# Altium footprint library xEV_Flyback20W.PcbLib: 42 footprints (part 1 of 3)
Each footprint in its own frame and in the unit in brackets; x right, y up, seen from the top. Pads: shape width x height; smd on the part's side, far side on the other; paste and mask are expansions set on the pad; w line width, h text height; cw(c..) or ccw(c..) is an arc to the next point about the centre after c.
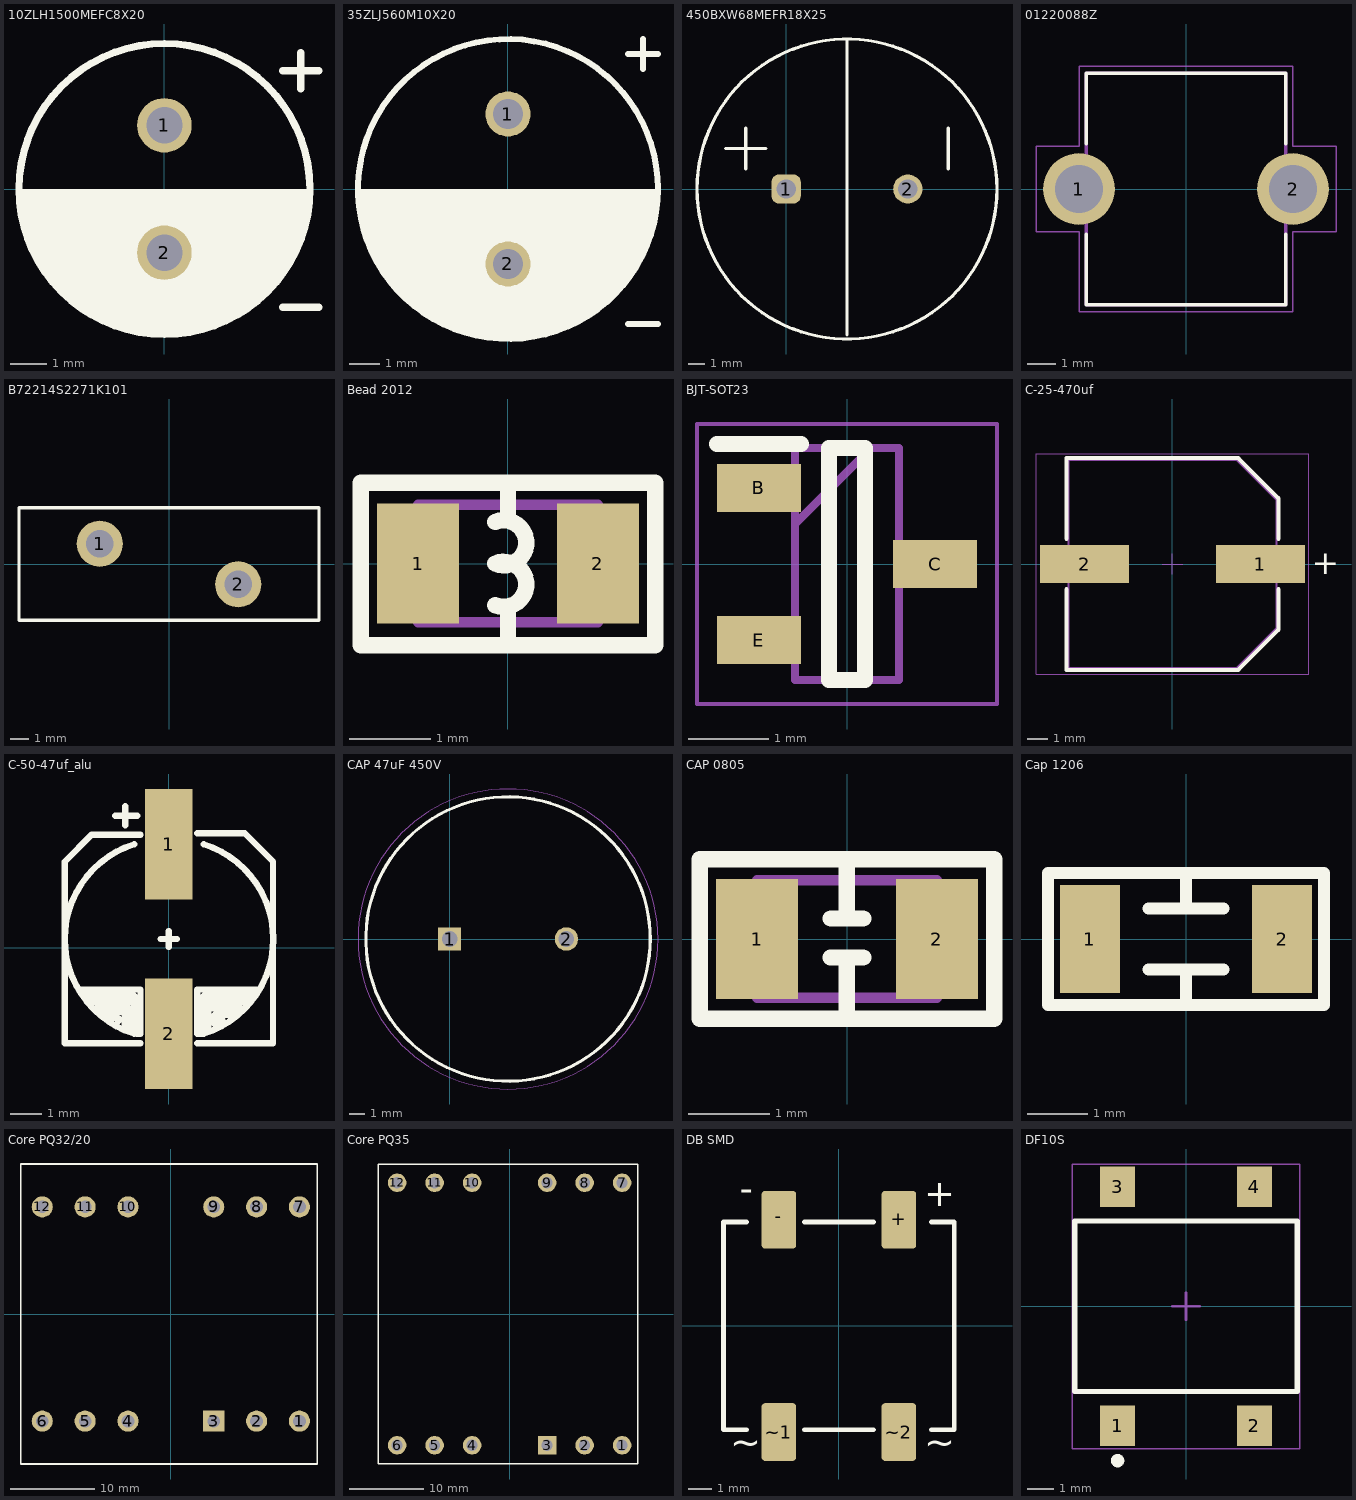
[diagram p0: the footprints below, top view; thin cyan lines are the x and y axes]

## 10ZLH1500MEFC8X20 [mm]
pads (2):
  round 1.5 hole 1: 1(0,1.75) 2(0,-1.75)
Top Overlay:
  circle w0.2: c0,0 r4
  region: -4,0 4,0 4,-0.315 3.902,-0.937 3.707,-1.535 3.421,-2.096 3.051,-2.606 2.606,-3.051 2.096,-3.421 1.535,-3.707 0.937,-3.902 0.315,-4 -0.315,-4 -0.937,-3.902 -1.535,-3.707 -2.096,-3.421 -2.606,-3.051 -3.051,-2.606 -3.421,-2.096 -3.707,-1.535 -3.902,-0.937 -4,-0.315
  lines w0.2: 3.25,-3.25 4.25,-3.25 ; 3.25,3.25 4.25,3.25 ; 3.75,2.75 3.75,3.75
3D body "CAP_YX_8X20_RUB.step": height 22.01, standoff -4.37, extent -4.255,-4.254 4.255,4.281

## 35ZLJ560M10X20 [mm]
pads (2):
  round 1.5 hole 1: 1(0,2.5) 2(0,-2.5)
Top Overlay:
  circle w0.2: c0,0 r5
  region: 5,0 -5,0 -5,-0.328 -4.914,-0.978 -4.745,-1.611 -4.494,-2.216 -4.166,-2.784 -3.767,-3.304 -3.304,-3.767 -2.784,-4.166 -2.216,-4.494 -1.611,-4.745 -0.978,-4.914 -0.328,-5 0.328,-5 0.978,-4.914 1.611,-4.745 2.216,-4.494 2.784,-4.166 3.304,-3.767 3.767,-3.304 4.166,-2.784 4.494,-2.216 4.745,-1.611 4.914,-0.978 5,-0.328
  lines w0.2: 4,-4.5 5,-4.5 ; 4,4.5 5,4.5 ; 4.5,4 4.5,5
3D body "CAP_YX_10X20_RUB.step": height 22.01, standoff -4.37, extent -5.242,-5.245 5.242,5.269

## 450BXW68MEFR18X25 [mm] "Cap 68uF 450V"
pads (2):
  rrect50% 1.8x1.8 hole 1.2: 1(0,0)
  round 1.8 hole 1.2: 2(7.5,0)
Top Overlay:
  circle w0.2: c3.75,0 r9.25
  lines w0.2: -3.75,2.5 -1.25,2.5 ; -2.5,1.25 -2.5,3.75 ; 3.75,-9 3.75,9.25 ; 10,1.25 10,3.75
3D body "EEUFC1H122S.STEP": height 25, standoff -17, extent -5.25,-8.999 12.75,8.999

## 01220088Z [mm]
pads (2):
  round 2.55 hole 1.7: 1(-3.81,0) 2(3.81,0)
Top Overlay:
  lines w0.127: -3.555,-1.61 -3.555,-4.125 3.555,-4.125 3.555,-1.61 ; -3.555,1.61 -3.555,4.125 3.555,4.125 3.555,1.61
Mechanical 13:
  lines w0.127: -3.555,-4.125 3.555,-4.125 3.555,4.125 -3.555,4.125 -3.555,-4.125
Mechanical 15:
  lines w0.05: -5.34,-1.53 -3.805,-1.53 -3.805,-4.375 3.805,-4.375 3.805,-1.53 5.34,-1.53 5.34,1.53 3.805,1.53 3.805,4.375 -3.805,4.375 -3.805,1.53 -5.34,1.53 -5.34,-1.53

## B72214S2271K101 [mm] "430 V 6 kA Varistor 1 Circuit Through Hole Disc 14mm"
height 18.5
pads (2):
  round 2.5 hole 1.5: 1(-3.75,1.1) 2(3.75,-1.1)
Top Overlay:
  lines w0.178: -8.128,-3.048 -8.128,3.048 8.128,3.048 8.128,-3.048 -8.128,-3.048
3D body "User Library-S14K25 MOV.STEP": height 18.5, standoff -3, extent -7.75,-2.1 7.75,2.1

## Bead 2012 [mm] "Bead 2012"
pads (2):
  rect 1x1.47 smd: 1(-1.1,0) 2(1.1,0)
Top Overlay:
  lines w0.2: -0.157,-0.508 ccw(c-0.051,-0.254) -0.157,0 ccw(c-0.051,0.254) -0.157,0.508 ; 0,-1 0,-0.569 ; 0,0.558 0,0.989
  lines w0.203: -1.8,-1 -1.8,0.989 1.8,0.989 1.8,-1 -1.8,-1
Mechanical 13:
  lines w0.127: -1.1,-0.72 -1.1,0.72 1.1,0.72 1.1,-0.72 -1.1,-0.72
3D body "C2012JB1V475M125AC.STEP": height 1.28, standoff 0.03, extent -1,-0.688 1,0.762

## BJT-SOT23 [mm]
pads (3):
  rect 1.05x0.6 smd: B(-1.1,0.95) C(1.1,0) E(-1.1,-0.95)
Top Overlay:
  lines w0.203: -1.625,1.5 -0.575,1.5 ; -0.225,-1.45 0.225,-1.45 0.225,1.45 -0.225,1.45 -0.225,-1.45
Mechanical 13:
  lines w0.1: -0.65,0.5 0.3,1.45 ; -0.65,-1.45 0.65,-1.45 0.65,1.45 -0.65,1.45 -0.65,-1.45
Mechanical 15:
  lines w0.05: -1.875,-1.75 1.875,-1.75 1.875,1.75 -1.875,1.75 -1.875,-1.75
3D body "BCW29,215.stp": height 0.95, standoff 0, extent -1.201,-1.448 1.199,1.452

## C-25-470uf [mm] "Aluminum Polymer Capacitor, Diameter 10mm"
height 12.4
pads (2):
  rect 4.4x1.9 smd: 1(4.35,0) 2(-4.35,0)
Top Overlay:
  lines w0.203: -5.25,-1.25 -5.25,-5.25 3.25,-5.25 5.25,-3.25 5.25,-1.25 ; -5.25,1.25 -5.25,5.25 3.25,5.25 5.25,3.25 5.25,1.25
  text "+" at 6.886,-0.514 h1.2
Top 3D Body:
  lines w0.1: -5.15,-5.15 3.15,-5.15 5.15,-3.15 5.15,3.15 3.15,5.15 -5.15,5.15 -5.15,-5.15
Top Courtyard:
  lines w0.05: -0.5,0 0.5,0 ; 0,-0.5 0,0.5 ; -6.75,-5.45 6.75,-5.45 6.75,5.45 -6.75,5.45 -6.75,-5.45
Top Designator:
  text ".Designator" at -7.498,-0.5 h1.5
Top Component Outline:
  lines w0.1: -5.15,-5.15 -5.15,5.15 3.15,5.15 5.15,3.15 5.15,-3.15 3.15,-5.15 -5.15,-5.15
3D body "10x12.4x4.5.stp": height 12.4, standoff 0, extent -5.5,-5.15 5.5,5.15

## C-50-47uf_alu [mm]
pads (2):
  rect 1.5x3.5 smd: 1(0,3.284) 2(0,-2.716)
Top Overlay:
  lines w0.2: -2.8,-1.316 -0.9,-1.316 -0.9,-2.716 -1,-2.716 ; -2.7,-1.516 -1.1,-1.516 -1.1,-2.616 ; -2.5,-1.716 -1.1,-1.716 -1.1,-2.566 ; -2.3,-2.016 -1.4,-2.016 -1.4,-2.416 ; -2.3,-1.916 -1.25,-1.916 -1.25,-2.516 ; -2,-2.216 -1.6,-2.216 -1.6,-2.316 ; -1.7,4.184 -1,4.184 ; -1.378,3.884 -1.378,4.484 ; -1.1,-2.716 cw(c-0.154,0.284) -1.1,3.284 ; -0.9,-3.016 -3.3,-3.016 -3.3,2.734 -2.45,3.584 -0.9,3.584 ; -0.254,0.284 0.254,0.284 ; 0,0.03 0,0.538 ; 0.9,-3.016 3.3,-3.016 3.3,2.734 2.4,3.634 0.9,3.634 ; 1.1,-2.616 1.1,-1.516 2.7,-1.516 ; 1.1,-2.566 1.1,-1.716 2.5,-1.716 ; 1.1,3.284 cw(c0.166,0.284) 1.1,-2.716 0.9,-2.716 0.9,-1.316 2.8,-1.316 ; 1.25,-2.516 1.25,-1.916 2.3,-1.916 ; 1.45,-2.416 1.45,-2.116 2.1,-2.116 ; 1.6,-2.316 1.6,-2.266 1.7,-2.266
3D body "865060645008.stp": height 7.7, standoff 0, extent -3.4,-3.691 3.4,4.259

## CAP 47uF 450V [mm]
pads (2):
  rect 1.5x1.5 hole 1: 1(0,0)
  round 1.5 hole 1: 2(7.5,0)
Top Overlay:
  circle w0.2: c3.75,0 r9.125
Mechanical 13:
  circle w0.1: c3.75,0 r9.125
Mechanical 15:
  circle w0.05: c3.75,0 r9.625
3D body "450BXW47MEFR18X20.stp": height 22, standoff -10, extent -5.5,-9.25 13,9.25

## CAP 0805 [mm] "0805 (2012)"
pads (2):
  rect 1x1.47 smd: 1(-1.1,0) 2(1.1,0)
Top Overlay:
  lines w0.2: -0.201,-0.226 0.199,-0.226 ; -0.2,0.25 0.2,0.25 ; -0.001,-0.975 -0.001,-0.226 ; -0.001,0.251 -0.001,0.975 ; -1.8,-0.975 1.8,-0.975 1.8,0.975 -1.8,0.975 -1.8,-0.975
Mechanical 13:
  lines w0.127: -1.1,-0.72 -1.1,0.72 1.1,0.72 1.1,-0.72 -1.1,-0.72
3D body "C2012JB1V475M125AC.STEP": height 1.28, standoff 0.03, extent -1,-0.688 1,0.762

## Cap 1206 [mm]
pads (2):
  rect 1x1.8 smd: 1(-1.6,0) 2(1.6,0)
Top Overlay:
  lines w0.2: -0.625,-0.508 0.625,-0.508 ; -0.625,0.508 0.625,0.508 ; 0,-1.1 0,-0.508 ; 0,0.508 0,1.1 ; -2.3,-1.1 2.3,-1.1 2.3,1.1 -2.3,1.1 -2.3,-1.1
3D body "C1206C103MDRACTU.stp": height 1.8, standoff 0, extent -1.7,-0.85 1.7,0.9

## Core PQ32/20 [mm]
pads (12):
  round 2.5 hole 1.5: 1(15.24,-12.7) 2(10.16,-12.7) 4(-5.08,-12.7) 5(-10.16,-12.7) 6(-15.24,-12.7) 7(15.24,12.7) 8(10.16,12.7) 9(5.08,12.7) 10(-5.08,12.7) 11(-10.16,12.7) 12(-15.24,12.7)
  rect 2.5x2.5 hole 1.5: 3(5.08,-12.7)
Top Overlay:
  lines w0.2: -17.78,-17.78 17.34,-17.78 17.34,17.78 -17.78,17.78 -17.78,-3.85 -17.78,-17.78
3D body "c61036-a0482-c001_pq32-10.step": height 20, standoff 9.75, extent -16,-11 16,11
3D body "c61036-a0482-c001_pq32-10.step": height 10.25, standoff 0, extent -16,-11 16,11
3D body "c61036-a0482-b200_pq32x20_sw.step": height 18.85, standoff -4.95, extent -16,-17 16,17

## Core PQ35 [mm]
pads (12):
  round 2.5 hole 1.5: 1(15.24,-17.78) 2(10.16,-17.78) 4(-5.08,-17.78) 5(-10.16,-17.78) 6(-15.24,-17.78) 7(15.24,17.78) 8(10.16,17.78) 9(5.08,17.78) 10(-5.08,17.78) 11(-10.16,17.78) 12(-15.24,17.78)
  rect 2.5x2.5 hole 1.5: 3(5.08,-17.78)
Top Overlay:
  lines w0.2: -17.78,-20.32 -17.78,-3.85 -17.78,20.32 17.34,20.32 17.34,-20.32 -17.78,-20.32
3D body "c61036-a0751-b202_asm_pq35-35.step": height 42, standoff -1.6, extent -17.5,-19.5 17.5,19.5
3D body "c61036-a0310-c002_pq35-35.step": height 21.5, standoff 4, extent -18.05,-13 18.05,13
3D body "c61036-a0310-c002_pq35-35.step": height 40, standoff 22.5, extent -18.05,-13 18.05,13

## DB SMD [mm]
pads (4):
  rrect20% 1.5x2.5 smd: +(2.6,4.6) -(-2.6,4.6) ~1(-2.6,-4.6) ~2(2.6,-4.6)
Top Overlay:
  lines w0.2: -4,-4.5 -5,-4.5 -5,4.3 -5,4.5 -4,4.5 ; -1.5,-4.5 1.5,-4.5 ; -1.5,4.5 1.5,4.5 ; 4,-4.5 5,-4.5 5,4.5 4,4.5
  text "~" at 3.7,-5.985 h2
  text "~" at -4.7,-5.985 h2
  text "-" at -4.3,5.016 h2
  text "+" at 3.7,4.793 h2
3D body "DBLS208GH.step": height 2.93, standoff 0, extent -4.16,-5.025 4.16,5.025

## DF10S [mm] "SMD, 4-Leads, Body 8.28x6.35mm, Pitch 5.1mm"
height 2.84
pads (4):
  rect 1.3x1.5 smd: 1(-2.55,-4.45) 2(2.55,-4.45) 3(-2.55,4.45) 4(2.55,4.45)
Top Overlay:
  circle w0.25: c-2.55,-5.75 r0.125
  lines w0.2: -4.14,-3.175 4.14,-3.175 4.14,3.175 -4.14,3.175 -4.14,-3.175
Mechanical 13:
  lines w0.1: -4.14,-3.175 4.14,-3.175 4.14,3.175 -4.14,3.175 -4.14,-3.175
Mechanical 15:
  lines w0.05: -4.24,-5.3 -4.24,5.3 4.24,5.3 4.24,-5.3 -4.24,-5.3
  lines w0.1: -0.5,0 0.5,0 ; 0,-0.5 0,0.5
3D body: height 2.84, standoff 0.08, extent -4.14,-3.175 4.14,3.175